# EAGLE library part RESISTOR-4X (library X893)
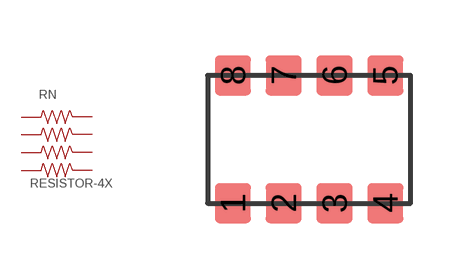
[diagram p208: symbol with the pads of RESISTOR-4X; footprint RESISTOR-4X]

Designator prefix RN

## RESISTOR-4X  [RESISTOR-4X]
1  1  pas
2  2  pas
3  3  pas
4  4  pas
5  5  pas
6  6  pas
7  7  pas
8  8  pas

## Footprint RESISTOR-4X (pad centres in mm)
smd 0.9 x 1: 1 -1.905,-1.6; 2 -0.635,-1.6; 3 0.635,-1.6; 4 1.905,-1.6; 5 1.905,1.6; 6 0.635,1.6; 7 -0.635,1.6; 8 -1.905,1.6